# Altium schematic symbol library SMD Антенны.SchLib: 1 symbol
Pins are listed as number, name and electrical type; pins without a type are passive.

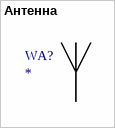
[diagram p0: symbol Антенна]

## Антенна
designator WA?
pins: 1